# Altium footprint library GT_4SBalancer.PcbLib: 1 footprints
Each footprint in its own frame and in the unit in brackets; x right, y up, seen from the top. Pads: shape width x height; smd on the part's side, far side on the other; paste and mask are expansions set on the pad; w line width, h text height; cw(c..) or ccw(c..) is an arc to the next point about the centre after c.
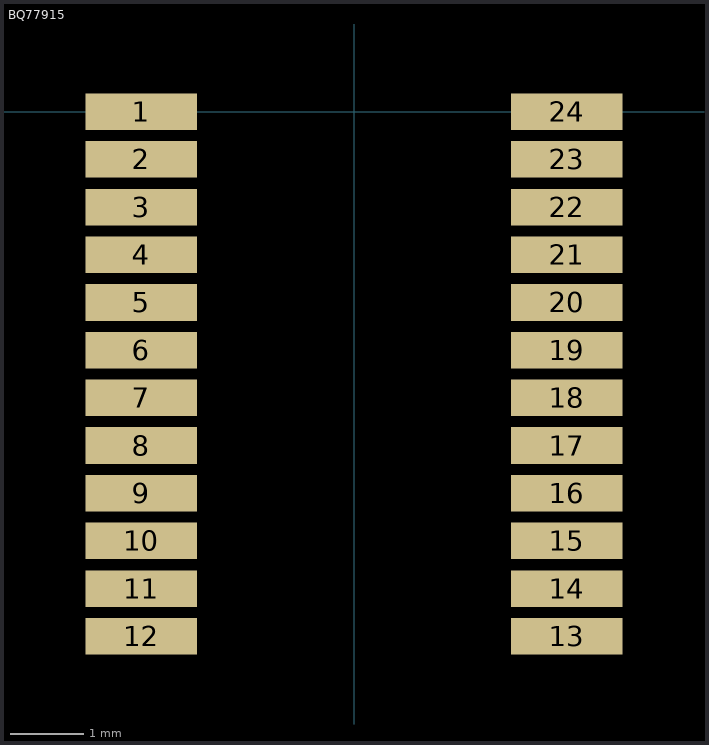
[diagram p0: the footprint, top view; thin cyan lines are the x and y axes]

## BQ77915 [mm] "TSSOP-24"
pads (24):
  rect 1.524x0.5 smd: 1(-2.9,0) 2(-2.9,-0.65) 3(-2.9,-1.3) 4(-2.9,-1.95) 5(-2.9,-2.6) 6(-2.9,-3.25) 7(-2.9,-3.9) 8(-2.9,-4.55) 9(-2.9,-5.2) 10(-2.9,-5.85) 11(-2.9,-6.5) 12(-2.9,-7.15) 13(2.9,-7.15) 14(2.9,-6.5) 15(2.9,-5.85) 16(2.9,-5.2) 17(2.9,-4.55) 18(2.9,-3.9) 19(2.9,-3.25) 20(2.9,-2.6) 21(2.9,-1.95) 22(2.9,-1.3) 23(2.9,-0.65) 24(2.9,0)
Top Overlay:
  text "." at -3.048,0.635 h1.52
3D body "TSSOP-24.stp": height 1.11, standoff 0.01, extent -3.215,-7.406 3.216,0.294